# Altium schematic symbol library ST-214N.SchLib: 1 symbol
Pins are listed as number, name and electrical type; pins without a type are passive.

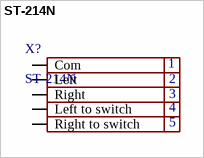
[diagram p0: symbol ST-214N]

## ST-214N
designator X?
Jack 3.5 mm
footprint ST-214N (Jack 3.5 mm)
pins: 1 Com, 2 Left, 3 Right, 4 Left to switch, 5 Right to switch